# Altium footprint library Polar Capacitor.PcbLib: 16 footprints
Each footprint in its own frame and in the unit in brackets; x right, y up, seen from the top. Pads: shape width x height; smd on the part's side, far side on the other; paste and mask are expansions set on the pad; w line width, h text height; cw(c..) or ccw(c..) is an arc to the next point about the centre after c.
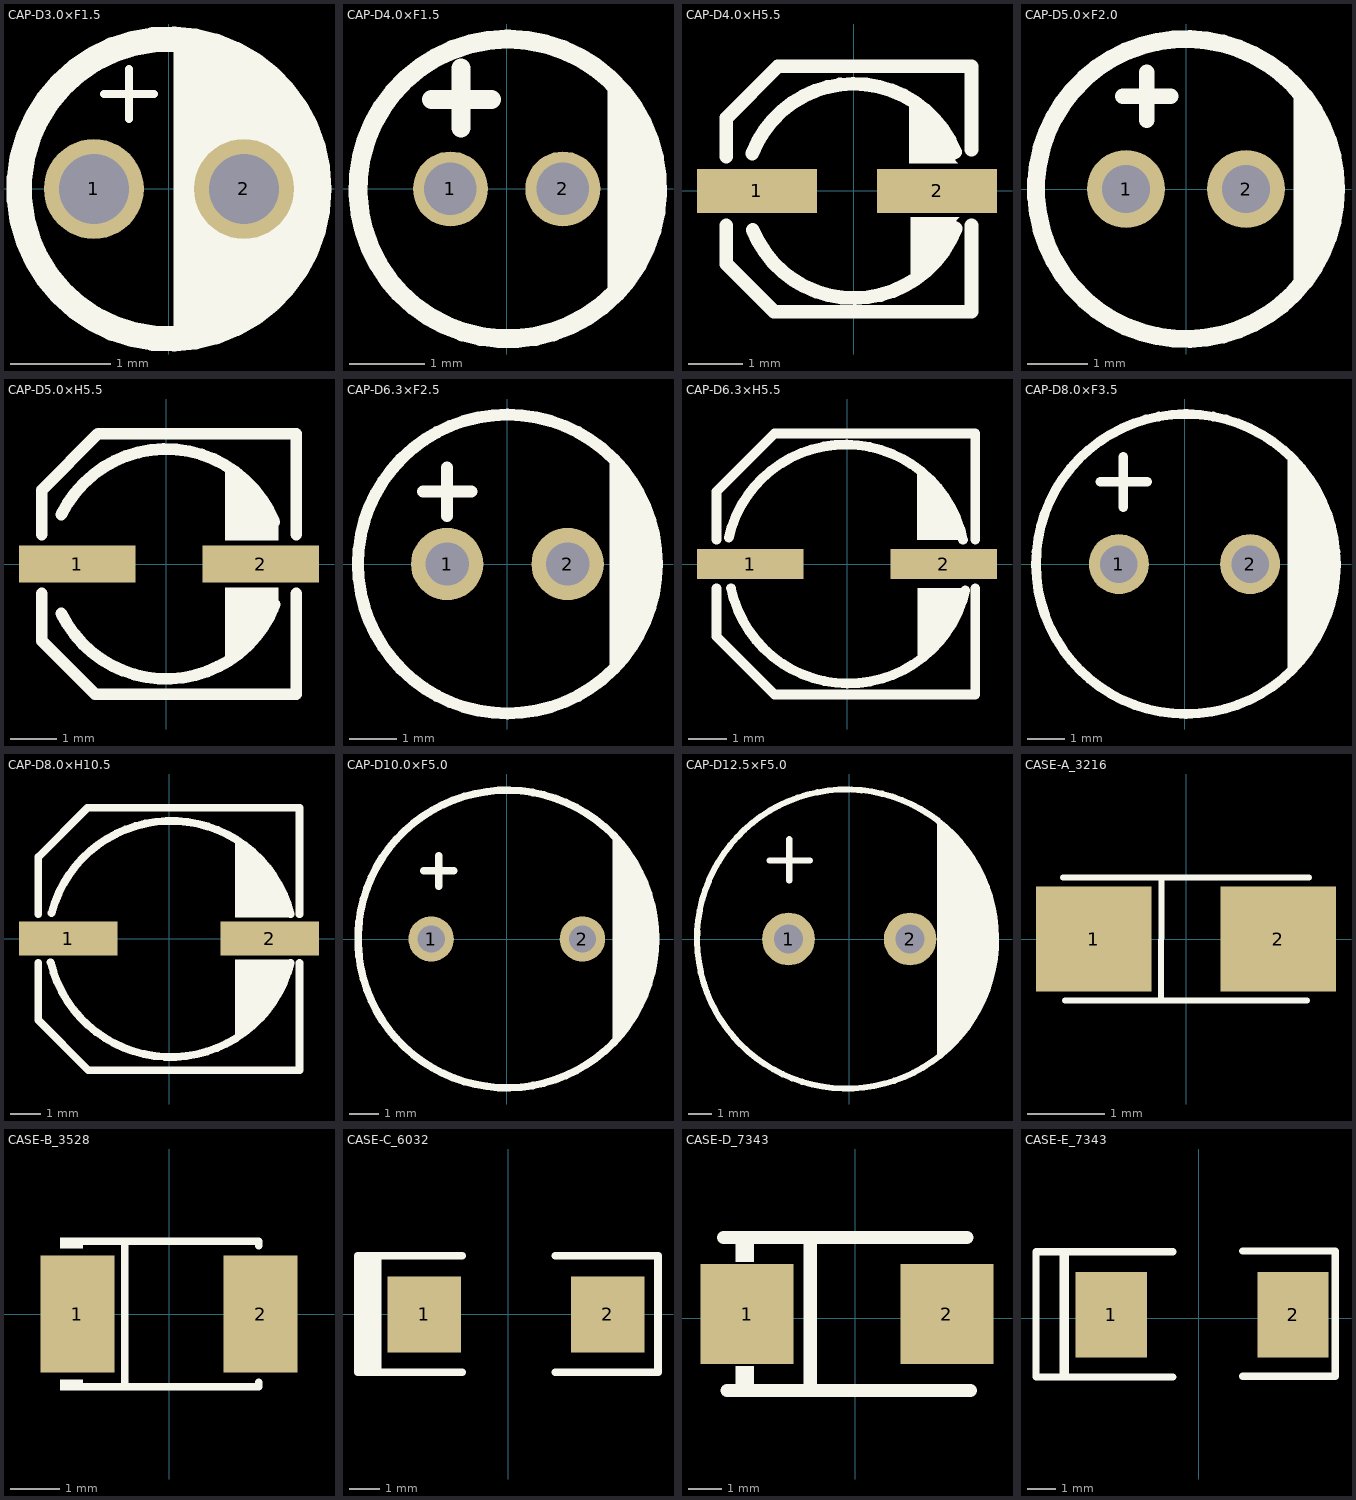
[diagram p0: the footprints below, top view; thin cyan lines are the x and y axes]

## CAP-D3.0×F1.5 [mm] "直插电容"
pads (2):
  round 1 hole 0.7 paste-2539.97 mask+0.102: 1(-0.751,0) 2(0.751,0)
Top Overlay:
  circle w0.254: c0.001,0 r1.5
  region: 0.051,-1.5 0.239,-1.487 0.598,-1.368 0.917,-1.164 1.175,-0.888 1.357,-0.556 1.451,-0.189 1.451,0.189 1.357,0.556 1.175,0.888 0.917,1.164 0.598,1.368 0.239,1.487 0.051,1.5
  lines w0.08: -0.65,0.95 -0.15,0.95 ; -0.4,0.7 -0.4,1.2

## CAP-D4.0×F1.5 [mm] "直插电容"
pads (2):
  round 1 hole 0.7 paste-2539.97 mask+0.102: 1(-0.751,0) 2(0.751,0)
Top Overlay:
  region: 1.351,-1.4 1.507,-1.274 1.758,-0.958 1.931,-0.594 2.021,-0.201 2.021,0.201 1.931,0.594 1.758,0.958 1.507,1.274 1.351,1.4
  lines w0.254: -1.003,1.196 -0.203,1.196 ; -0.609,0.815 -0.609,1.615 ; -0.001,1.999 ccw(c0.015,-0.001) 0.032,1.999

## CAP-D4.0×H5.5 [mm] "贴片电容"
pads (2):
  rect 2.2x0.8 smd paste+0 mask+0.102: 1(-1.778,0) 2(1.524,0)
Top Overlay:
  region: 1.016,1.651 1.016,0.508 1.905,0.508 1.854,0.559 1.854,0.94 1.143,1.651
  region: 1.041,-1.626 1.041,-0.483 1.93,-0.483 1.88,-0.533 1.88,-0.914 1.168,-1.626
  lines w0.254: -2.341,-0.635 -2.341,-1.342 -1.469,-2.214 2.159,-2.214 2.159,-0.635 ; -2.341,0.635 -2.341,1.342 -1.397,2.286 2.159,2.286 2.159,0.762 ; -1.864,0.688 cw(c0,-0.034) 1.854,0.716 ; -1.854,-0.716 ccw(c0,0.034) 1.864,-0.688

## CAP-D5.0×F2.0 [mm] "直插电容"
pads (2):
  round 1.3 hole 0.8 paste-2539.97 mask+0.102: 1(-1,0) 2(1,0)
Top Overlay:
  circle w0.3: c0,0 r2.5
  region: 1.794,1.651 1.961,1.491 2.225,1.111 2.407,0.685 2.5,0.231 2.5,-0.232 2.407,-0.685 2.225,-1.111 1.961,-1.491 1.794,-1.651
  lines w0.254: -1.054,1.546 -0.254,1.546 ; -0.654,1.146 -0.654,1.946

## CAP-D5.0×H5.5 [mm] "贴片电容"
pads (2):
  rect 2.5x0.8 smd paste+0 mask+0.102: 1(-1.905,0) 2(2.032,0)
Top Overlay:
  region: 1.27,-2.032 1.27,-0.508 2.413,-0.508 2.413,-1.016 1.397,-2.032
  region: 1.27,2.032 1.27,0.508 2.413,0.508 2.413,1.016 1.397,2.032
  lines w0.254: -2.667,-0.635 -2.667,-1.651 -1.524,-2.794 2.794,-2.794 2.794,-0.635 ; -2.667,0.635 -2.667,1.587 -1.46,2.794 2.794,2.794 2.794,0.635 ; -2.248,-1.059 ccw(c0,0.034) 2.332,-0.869 ; -2.248,1.059 cw(c0.001,-0.033) 2.319,0.904

## CAP-D6.3×F2.5 [mil] "直插电容"
pads (2):
  round 60 hole 36 paste-99999 mask+4: 1(-50,0) 2(50,0)
Top Overlay:
  circle w10: c0,0 r124
  region: 85,90 91.28,84.33 102.15,71.35 111.11,56.98 117.99,41.51 122.65,25.23 125,8.47 125,-8.47 122.65,-25.23 117.99,-41.51 111.11,-56.98 102.15,-71.35 91.28,-84.33 85,-90
  lines w10: -70,60 -30,60 ; -50,40 -50,80

## CAP-D6.3×H5.5 [mm] "贴片电容"
pads (2):
  rect 2.8x0.8 smd paste+0 mask+0.102: 1(-2.54,0) 2(2.54,0)
Top Overlay:
  region: 1.854,-2.413 1.854,-0.635 3.051,-0.635 3.106,-0.689 3.106,-1.085 2.591,-1.676 2.54,-1.905
  region: 1.84,2.413 1.84,0.635 2.986,0.635 3.041,0.689 3.041,1.085 2.54,1.778 2.475,1.905
  lines w0.254: -3.429,-0.635 -3.429,-1.905 -1.905,-3.429 3.365,-3.429 3.365,-0.635 ; -3.429,0.635 -3.429,1.905 -1.905,3.429 3.365,3.429 3.365,0.635 ; -3.106,0.688 cw(c-0.035,-0.011) 3.048,0.635 ; -3.048,-0.635 ccw(c0.035,0.011) 3.106,-0.688

## CAP-D8.0×F3.5 [mm] "直插电容"
pads (2):
  round 1.6 hole 1 paste-2539.97 mask+0.102: 1(-1.75,0) 2(1.75,0)
Top Overlay:
  region: 2.75,-3 2.941,-2.8 3.268,-2.355 3.536,-1.872 3.741,-1.359 3.88,-0.824 3.95,-0.276 3.95,0.276 3.88,0.824 3.741,1.359 3.536,1.872 3.268,2.355 2.941,2.8 2.75,3
  lines w0.254: -2.245,2.2 -1,2.2 ; -1.635,1.514 -1.635,2.86 ; 0.003,4 ccw(c0.038,0.001) 0.074,4

## CAP-D8.0×H10.5 [mm] "贴片电容"
pads (2):
  rect 3.2x1.1 smd paste+0 mask+0.102: 1(-3.264,0) 2(3.264,0)
Top Overlay:
  region: 2.146,-3.175 2.146,-0.686 4,-0.686 4,-0.914 3.772,-1.143 3.772,-1.575 3.289,-2.057 3.289,-2.311 2.73,-2.87 2.603,-2.87 2.375,-3.099
  region: 2.146,3.175 2.146,0.686 4,0.686 4,0.914 3.772,1.143 3.772,1.575 3.289,2.057 3.289,2.311 2.73,2.87 2.603,2.87 2.375,3.099
  lines w0.254: -4.242,-0.787 -4.242,-2.642 -2.616,-4.267 4.229,-4.267 4.229,-0.787 ; -4.242,0.787 -4.242,2.642 -2.642,4.242 4.229,4.242 4.229,0.787 ; -3.838,-0.765 ccw(c0.053,0.162) 3.94,-0.785 ; -3.805,0.833 cw(c0.064,-0.183) 3.945,0.787

## CAP-D10.0×F5.0 [mil] "直插电容"
pads (2):
  round 60 hole 36 paste-99999 mask+4: 1(-100,0) 2(100,0)
Top Overlay:
  circle w10: c0,0 r196.8
  region: 140,140 140,-140 170,-100 190,-40 200,20 190,60
  lines w10: -110,90 -70,90 ; -90,70 -90,110

## CAP-D12.5×F5.0 [mm] "直插电容"
pads (2):
  round 2.2 hole 1.2 paste-2539.97 mask+0.102: 1(-2.54,0) 2(2.54,0)
Top Overlay:
  region: 3.683,5.004 3.683,-4.928 3.734,-4.978 4.801,-3.734 4.902,-3.683 5.258,-3.099 5.436,-2.718 5.715,-2.311 5.817,-1.702 5.994,-1.524 5.994,-0.711 6.148,-0.557 6.148,0.433 6.172,0.457 6.071,0.559 5.994,1.422 5.842,1.626 5.715,2.362 5.385,2.819 5.283,3.226 4.851,3.759 4.851,3.785
  lines w0.254: -3.324,3.283 -1.648,3.283 ; -2.511,2.445 -2.511,4.172 ; -0.025,6.251 ccw(c-0.116,0.002) 0.084,6.248

## CASE-A_3216 [mm] "贴片电容"
pads (2):
  rect 1.5x1.359 smd paste+0 mask+0.051: 1(-1.2,0) 2(1.2,0)
Top Overlay:
  lines w0.08: -1.6,0.8 1.6,0.8 ; -1.575,-0.8 1.575,-0.8 ; -0.323,-0.8 -0.32,0.8

## CASE-B_3528 [mm] "贴片电容"
pads (2):
  rect 1.506x2.376 smd paste+0 mask+0.051: 1(-1.861,0) 2(1.861,0)
Top Overlay:
  region: -1.75,1.552 -1.75,1.34 -2.207,1.34 -2.207,1.552
  region: -1.75,-1.552 -1.75,-1.34 -2.207,-1.34 -2.207,-1.552
  lines w0.152: -1.826,-1.476 1.826,-1.476 1.826,-1.391 ; -1.826,1.476 1.826,1.476 1.826,1.391 ; -0.904,-1.476 -0.904,1.476

## CASE-C_6032 [mil] "贴片电容"
pads (2):
  rect 95.5x98.42 smd paste+0 mask+2: 1(-109,0) 2(129,0)
Top Overlay:
  region: -195,-75 -195,76 -173,76 -171,74 -171,-73
  lines w10: -60,-75 -64,-75 -195,-75 -195,76 -64,76 -60,76 ; 61,-75 194,-75 194,76 61,76
  lines w13: -171,-73 -171,74

## CASE-D_7343 [mil] "贴片电容"
pads (2):
  rect 110.2x118.5 smd paste+0 mask+2: 1(-128.11,5) 2(108.11,5)
Top Overlay:
  region: -141.81,95.55 -141.81,66.61 -120.16,66.61 -120.16,94.96 -120.75,95.55 -126.85,95.55
  region: -120.16,-85.55 -120.16,-56.61 -141.81,-56.61 -141.81,-84.96 -141.22,-85.55 -135.12,-85.55
  lines w15.75: -155.67,95.55 131.73,95.55 ; -151.73,-85.55 135.67,-85.55 ; -53.36,-85.55 -53.31,95.55

## CASE-E_7343 [mil] "贴片电容"
pads (2):
  rect 98.42x118.5 smd paste+0 mask+2: 1(-120.84,5) 2(130.85,5)
Top Overlay:
  lines w10: -35.84,-81 -35.55,-81 -160.75,-81 -224.84,-81 -224.84,92 -35.55,92 -35.84,92 ; 61.16,-80 189.16,-80 189.16,93 61.16,93
  lines w13: -185.84,-79.29 -185.84,90